# Altium schematic symbol library LM7805.Schlib: 1 symbol
Pins are listed as number, name and electrical type; pins without a type are passive.

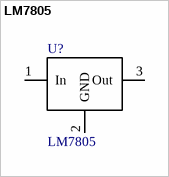
[diagram p0: symbol LM7805]

## LM7805
designator U?
IC REG LIN 5V 1A
pins: 1 In, 2 GND, 3 Out